# EAGLE library part AGP-CON (library MiiLib)
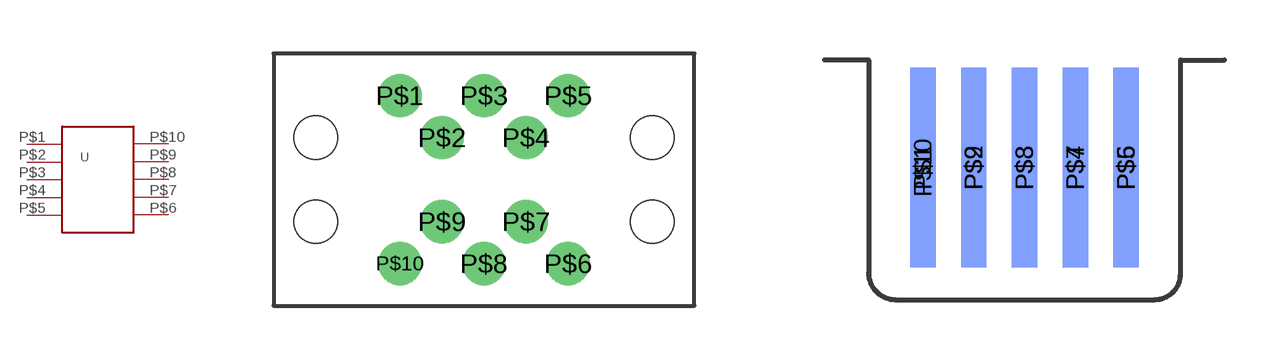
[diagram p9: symbol with the pads of AGPBASE; footprints AGPBASE, AGPSLOT]

Designator prefix -

## AGP-CONBASE  [AGPBASE]
P$1  P$1
P$2  P$2
P$3  P$3
P$4  P$4
P$5  P$5
P$6  P$6
P$7  P$7
P$8  P$8
P$9  P$9
P$10  P$10

## AGP-CONSLOT  [AGPSLOT]
Pads as for AGPBASE

## Footprint AGPBASE (pad centres in mm)
drill 0.8: P$1 0,0; P$2 1.27,-1.27; P$3 2.54,0; P$4 3.81,-1.27; P$5 5.08,0; P$6 5.08,-5.08; P$7 3.81,-3.81; P$8 2.54,-5.08; P$9 1.27,-3.81; P$10 0,-5.08
hole 1.3 at -2.54,-1.27
hole 1.3 at -2.54,-3.81
hole 1.3 at 7.62,-1.27
hole 1.3 at 7.62,-3.81

## Footprint AGPSLOT (pad centres in mm)
smd 0.635 x 5: P$1 -2.54,3.302; P$2 -1.27,3.302; P$3 0,3.302; P$4 1.27,3.302; P$5 2.54,3.302
smd 0.635 x 5 bottom: P$6 2.54,3.302; P$7 1.27,3.302; P$8 0,3.302; P$9 -1.27,3.302; P$10 -2.54,3.302